# Altium footprint library 研发中心PCB库文件.PcbLib: 333 footprints (part 12 of 21)
Each footprint in its own frame and in the unit in brackets; x right, y up, seen from the top. Pads: shape width x height; smd on the part's side, far side on the other; paste and mask are expansions set on the pad; w line width, h text height; cw(c..) or ccw(c..) is an arc to the next point about the centre after c.
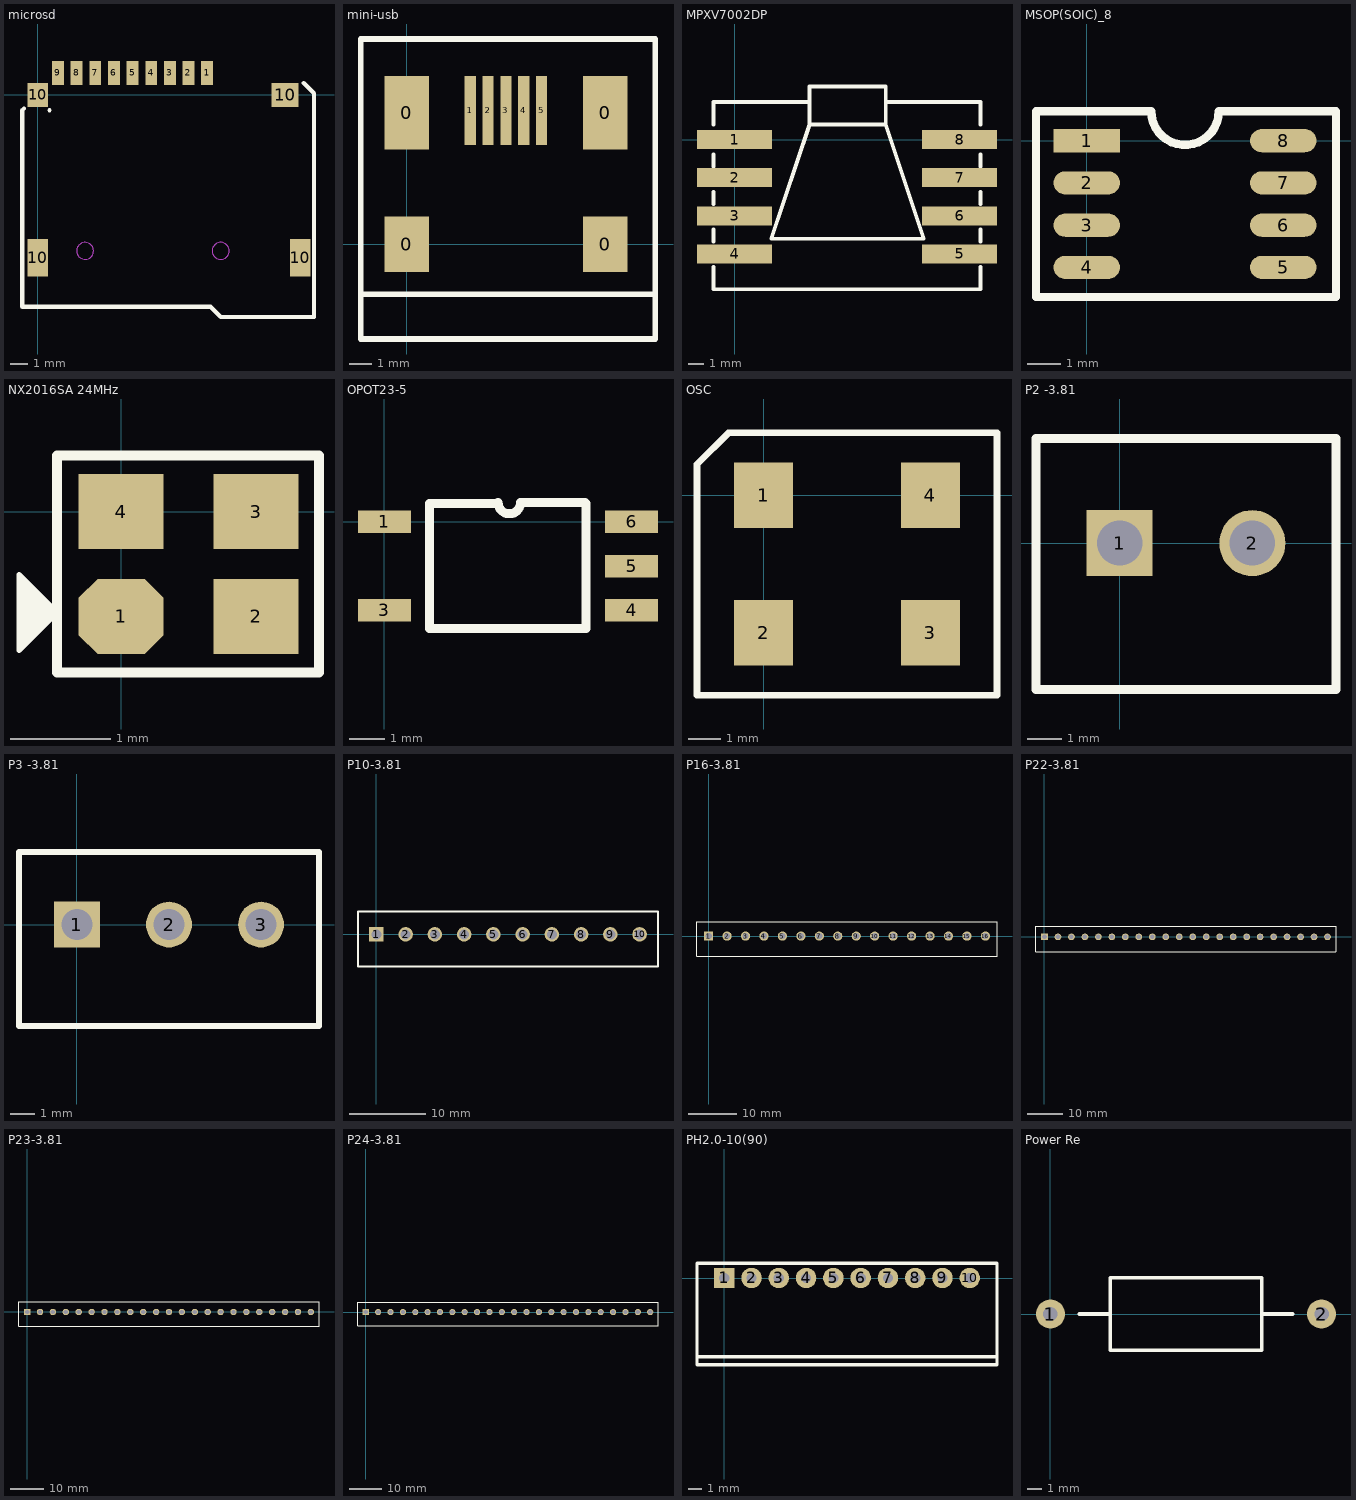
[diagram p11: the footprints below, top view; thin cyan lines are the x and y axes]

## microsd [mm]
pads (13):
  rect 0.7x1.4 smd: 1(10,1.3) 2(8.9,1.3) 3(7.8,1.3) 4(6.7,1.3) 5(5.6,1.3) 6(4.5,1.3) 7(3.4,1.3) 8(2.3,1.3) 9(1.2,1.3)
  rect 1.2x1.4 smd: 10(0,0)
  rect 1.2x2.2 smd: 10(0,-9.6) 10(15.5,-9.6)
  rect 1.6x1.4 smd: 10(14.6,0)
Top Overlay:
  lines w0.254: -0.8,-0.8 -0.9,-0.9 -0.9,-2.5 ; 15.7,0.7 16.3,0.1 16.3,-13.1 11.6,-13.1 10.8,-13.1 10.2,-12.5 -0.9,-12.5 ; -0.9,-12.5 -0.9,-2.5 ; -0.9,-12.5 -0.9,-2.5 ; 0.7,-0.9 0.7,-0.9
Keep-Out Layer:
  circle w0.05: c10.8,-9.2 r0.51
  circle w0.05: c2.8,-9.2 r0.5
Mechanical 1:
  circle w0.05: c10.8,-9.2 r0.5
  circle w0.05: c2.8,-9.2 r0.5

## mini-usb [mm]
pads (9):
  rect 2x2.5 smd: 0(0,0) 0(8.9,0)
  rect 2x3.3 smd: 0(0,5.9) 0(8.9,5.9)
  rect 0.5x3.1 smd: 1(2.85,6) 2(3.65,6) 3(4.45,6) 4(5.25,6) 5(6.05,6)
Top Overlay:
  lines w0.254: -2,9.2 11.15,9.2 11.15,-4.25 -2.068,-4.25 -2.068,9.2 -2.068,-2.25 11.15,-2.25

## MPXV7002DP [mm]
pads (8):
  rect 5x1.27 smd: 1(0,0) 2(0,-2.54) 3(0,-5.08) 4(0,-7.62) 5(15,-7.62) 6(15,-5.08) 7(15,-2.54) 8(15,0)
Top Overlay:
  lines w0.254: -1.39,-8.5 -1.39,-9.97 16.39,-9.97 16.39,-8.5 ; -1.39,-6.8 -1.39,-6 ; -1.39,-4.3 -1.39,-3.5 ; -1.39,-1.8 -1.39,-1 ; -1.39,1 -1.39,2.5 5,2.5 ; 5,-6.608 10.081,-6.608 ; 10.1,2.5 16.39,2.5 16.39,1 ; 16.39,-6.8 16.39,-6 ; 16.39,-4.3 16.39,-3.5 ; 16.39,-1.8 16.39,-1 ; 5,1 2.459,-6.608 12.622,-6.608 10.081,1 ; 5,1 10.081,1 ; 5,1 5,3.536 10.081,3.536 10.081,1

## MSOP(SOIC)_8 [mm]
pads (8):
  rect 2x0.7 smd: 1(0,0)
  oval 2x0.7 smd: 2(0,-1.27) 3(0,-2.54) 4(0,-3.81) 5(5.91,-3.81) 6(5.91,-2.54) 7(5.91,-1.27) 8(5.91,0)
Top Overlay:
  lines w0.254: -1.524,-4.699 -1.524,0.889 1.939,0.889 ccw(c2.955,0.889) 3.971,0.889 7.493,0.889 7.493,-4.699 -1.524,-4.699

## NX2016SA 24MHz [mm]
pads (4):
  oct 0.85x0.75 smd: 1(0,-1.05)
  rect 0.85x0.75 smd: 2(1.35,-1.05) 3(1.35,0) 4(0,0)
Top Overlay:
  rectangle: -0.743,-1.061 -0.667,-0.959
  rectangle: -0.743,-1.086 -0.718,-0.908
  rectangle: -0.794,-1.137 -0.743,-0.883
  rectangle: -0.845,-1.188 -0.794,-0.832
  rectangle: -0.921,-1.239 -0.845,-0.781
  rectangle: -0.972,-1.289 -0.895,-0.731
  rectangle: -1.022,-1.34 -0.946,-0.68
  lines w0.05: -1.022,-1.391 -1.022,-1.01 -1.022,-0.629 -0.641,-1.01 -1.022,-1.391
  lines w0.102: -0.641,-1.61 -0.641,-1.01 -0.641,0.56 1.98,0.56 1.98,-1.61 -0.641,-1.61

## OPOT23-5 [mm]
pads (5):
  rect 1.5x0.635 smd: 1(0,0) 3(0,-2.5) 4(7,-2.5) 5(7,-1.25) 6(7,0)
Top Overlay:
  lines w0.254: 3.191,0.52 1.27,0.52 1.27,-3.023 5.67,-3.023 ; 3.221,0.55 ccw(c3.539,0.55) 3.856,0.55 5.683,0.55 ; 5.713,-3.023 5.713,0.52

## OSC [mm]
pads (4):
  rect 1.8x2 smd: 1(0,0) 2(0,-4.2) 3(5.08,-4.2) 4(5.08,0)
Top Overlay:
  lines w0.2: -2.032,-6.096 7.112,-6.096 7.112,1.896 -0.61,1.896 -1.076,1.896 -2.032,0.94 -2.032,-6.096

## P2 -3.81 [mm]
pads (2):
  rect 1.9x1.9 hole 1.3: 1(0,0)
  round 1.9 hole 1.3: 2(3.81,0)
Top Overlay:
  lines w0.254: -2.4,-4.2 -2.4,3 6.21,3 6.21,-4.2 -2.4,-4.2

## P3 -3.81 [mm]
pads (3):
  rect 1.9x1.9 hole 1.3: 1(0,0)
  round 1.9 hole 1.3: 2(3.81,0) 3(7.62,0)
Top Overlay:
  lines w0.254: -2.4,-4.2 10.02,-4.2 10.02,3 -2.4,3 -2.4,-4.2

## P10-3.81 [mm]
pads (10):
  rect 1.9x1.9 hole 1.3: 1(0,0)
  round 1.9 hole 1.3: 2(3.81,0) 3(7.62,0) 4(11.43,0) 5(15.24,0) 6(19.05,0) 7(22.86,0) 8(26.67,0) 9(30.48,0) 10(34.29,0)
Top Overlay:
  lines w0.254: 36.678,-4.2 -2.4,-4.2 -2.4,3 36.649,3 36.69,2.959 36.69,-4.2

## P16-3.81 [mm]
pads (16):
  rect 1.9x1.9 hole 1.3: 1(0,0)
  round 1.9 hole 1.3: 2(3.81,0) 3(7.62,0) 4(11.43,0) 5(15.24,0) 6(19.05,0) 7(22.86,0) 8(26.67,0) 9(30.48,0) 10(34.29,0) 11(38.1,0) 12(41.91,0) 13(45.72,0) 14(49.53,0) 15(53.34,0) 16(57.15,0)
Top Overlay:
  lines w0.254: -2.4,-4.2 59.55,-4.2 59.55,3 -2.4,3 -2.4,-4.2

## P22-3.81 [mm]
pads (22):
  rect 1.9x1.9 hole 1.3: 1(0,0)
  round 1.9 hole 1.3: 2(3.81,0) 3(7.62,0) 4(11.43,0) 5(15.24,0) 6(19.05,0) 7(22.86,0) 8(26.67,0) 9(30.48,0) 10(34.29,0) 11(38.1,0) 12(41.91,0) 13(45.72,0) 14(49.53,0) 15(53.34,0) 16(57.15,0) 17(60.96,0) 18(64.77,0) 19(68.58,0) 20(72.39,0) 21(76.2,0) 22(80.01,0)
Top Overlay:
  lines w0.254: 82.347,3 -2.4,3 -2.4,-4.2 82.398,-4.2 ; 82.41,-4.2 82.41,3

## P23-3.81 [mm]
pads (23):
  rect 1.9x1.9 hole 1.3: 1(0,0)
  round 1.9 hole 1.3: 2(3.81,0) 3(7.62,0) 4(11.43,0) 5(15.24,0) 6(19.05,0) 7(22.86,0) 8(26.67,0) 9(30.48,0) 10(34.29,0) 11(38.1,0) 12(41.91,0) 13(45.72,0) 14(49.53,0) 15(53.34,0) 16(57.15,0) 17(60.96,0) 18(64.77,0) 19(68.58,0) 20(72.39,0) 21(76.2,0) 22(80.01,0) 23(83.82,0)
Top Overlay:
  lines w0.254: 86.208,3 -2.4,3 -2.4,-4.2 86.22,-4.2 86.22,3

## P24-3.81 [mm]
pads (24):
  rect 1.9x1.9 hole 1.3: 1(0,0)
  round 1.9 hole 1.3: 2(3.81,0) 3(7.62,0) 4(11.43,0) 5(15.24,0) 6(19.05,0) 7(22.86,0) 8(26.67,0) 9(30.48,0) 10(34.29,0) 11(38.1,0) 12(41.91,0) 13(45.72,0) 14(49.53,0) 15(53.34,0) 16(57.15,0) 17(60.96,0) 18(64.77,0) 19(68.58,0) 20(72.39,0) 21(76.2,0) 22(80.01,0) 23(83.82,0) 24(87.63,0)
Top Overlay:
  lines w0.254: -2.4,-4.2 90.03,-4.2 90.03,3 -2.4,3 -2.4,-4.2

## PH2.0-10(90) [mm]
pads (10):
  rect 1.5x1.5 hole 0.75: 1(0,0.025)
  round 1.5 hole 0.75: 2(2,0.025) 3(4,0.025) 4(6,0.025) 5(8,0.025) 6(10,0.025) 7(12,0.025) 8(14,0.025) 9(16,0.025) 10(18,0.025)
Top Overlay:
  lines w0.254: -2,-5.766 20,-5.766 ; -2,-6.35 -2,1.118 20,1.118 20,-6.35 -2,-6.35

## Power Re [mil]
pads (2):
  round 80 hole 40: 1(0,0) 2(750,0)
Top Overlay:
  lines w10: 80,0 165,0 ; 585,0 670,0 ; 165,0 165,100 585,100 585,-100 165,-100 165,0